# EAGLE library part AD9238BSTZ-20 (library receiver_2v0)
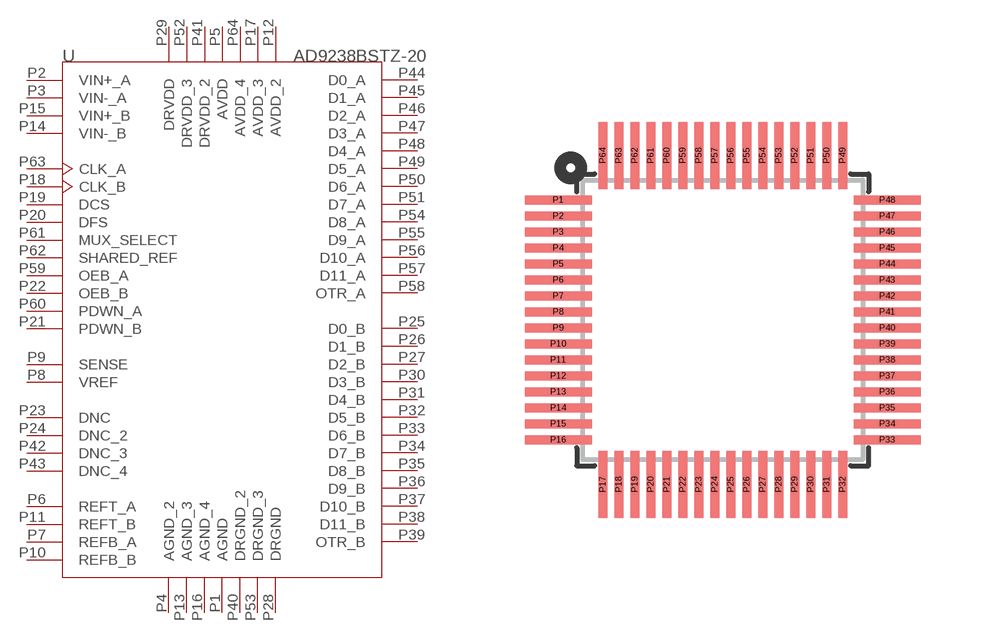
[diagram p8: symbol with the pads of ST-64-1; footprint ST-64-1]

Designator prefix U

## AD9238BSTZ-20 (MANUFACTURER_PART_NUMBER: AD9238BSTZ-20; VENDOR: Vendor)  [ST-64-1]
P1  AGND  pas
P2  VIN+_A  pas
P3  VIN-_A  pas
P4  AGND_2  pas
P5  AVDD  pwr
P6  REFT_A  pas
P7  REFB_A  pas
P8  VREF  pas
P9  SENSE  pas
P10  REFB_B  pas
P11  REFT_B  pas
P12  AVDD_2  pwr
P13  AGND_3  pas
P14  VIN-_B  pas
P15  VIN+_B  pas
P16  AGND_4  pas
P17  AVDD_3  pwr
P18  CLK_B  pas
P19  DCS  pas
P20  DFS  pas
P21  PDWN_B  pas
P22  OEB_B  pas
P23  DNC  pas
P24  DNC_2  pas
P25  D0_B  pas
P26  D1_B  pas
P27  D2_B  pas
P28  DRGND  pas
P29  DRVDD  pwr
P30  D3_B  pas
P31  D4_B  pas
P32  D5_B  pas
P33  D6_B  pas
P34  D7_B  pas
P35  D8_B  pas
P36  D9_B  pas
P37  D10_B  pas
P38  D11_B  pas
P39  OTR_B  pas
P40  DRGND_2  pas
P41  DRVDD_2  pwr
P42  DNC_3  pas
P43  DNC_4  pas
P44  D0_A  pas
P45  D1_A  pas
P46  D2_A  pas
P47  D3_A  pas
P48  D4_A  pas
P49  D5_A  pas
P50  D6_A  pas
P51  D7_A  pas
P52  DRVDD_3  pwr
P53  DRGND_3  pas
P54  D8_A  pas
P55  D9_A  pas
P56  D10_A  pas
P57  D11_A  pas
P58  OTR_A  pas
P59  OEB_A  pas
P60  PDWN_A  pas
P61  MUX_SELECT  pas
P62  SHARED_REF  pas
P63  CLK_A  pas
P64  AVDD_4  pwr

## Footprint ST-64-1 (pad centres in mm)
smd 1.676 x 0.229: P1 -4.115,3; P2 -4.115,2.6; P3 -4.115,2.2; P4 -4.115,1.8; P5 -4.115,1.4; P6 -4.115,1; P7 -4.115,0.6; P8 -4.115,0.2; P9 -4.115,-0.2; P10 -4.115,-0.6; P11 -4.115,-1; P12 -4.115,-1.4; P13 -4.115,-1.8; P14 -4.115,-2.2; P15 -4.115,-2.6; P16 -4.115,-3; P33 4.115,-3; P34 4.115,-2.6; P35 4.115,-2.2; P36 4.115,-1.8; P37 4.115,-1.4; P38 4.115,-1; P39 4.115,-0.6; P40 4.115,-0.2; P41 4.115,0.2; P42 4.115,0.6; P43 4.115,1; P44 4.115,1.4; P45 4.115,1.8; P46 4.115,2.2; P47 4.115,2.6; P48 4.115,3
smd 0.229 x 1.676: P17 -3,-4.115; P18 -2.6,-4.115; P19 -2.2,-4.115; P20 -1.8,-4.115; P21 -1.4,-4.115; P22 -1,-4.115; P23 -0.6,-4.115; P24 -0.2,-4.115; P25 0.2,-4.115; P26 0.6,-4.115; P27 1,-4.115; P28 1.4,-4.115; P29 1.8,-4.115; P30 2.2,-4.115; P31 2.6,-4.115; P32 3,-4.115; P49 3,4.115; P50 2.6,4.115; P51 2.2,4.115; P52 1.8,4.115; P53 1.4,4.115; P54 1,4.115; P55 0.6,4.115; P56 0.2,4.115; P57 -0.2,4.115; P58 -0.6,4.115; P59 -1,4.115; P60 -1.4,4.115; P61 -1.8,4.115; P62 -2.2,4.115; P63 -2.6,4.115; P64 -3,4.115